# Altium integrated library K7805-2000R3.IntLib: 1 symbol
Pins are listed as number, name and electrical type; pins without a type are passive.

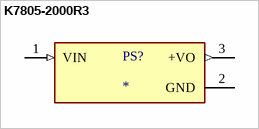
[diagram p0: symbol K7805-2000R3]

## K7805-2000R3
designator PS?
éžçµ¶ç¸åž‹ PoL ãƒ¢ã‚¸ãƒ¥ãƒ¼ãƒ« DC DC ã‚³ãƒ³ãƒãƒ¼ã‚¿ 1 å‡ºåŠ› 5V 2A 8V - 36V å…¥åŠ›; MF: Mornsun America, LLC; MP: K7805-2000R3; SnapEDA_Link: https://www.snapeda.com/parts/K7805-2000R3/MORNSUN/view-part/5366399/?ref=snap; Value: *; Package: SIP-3-3 MORNSUN; Digi-Key_Part_Number: 2725-K7805-2000R3-ND; Check_prices: https://www.snapeda.com/parts/K7805-2000R3/MORNSUN/view-part/5366399/?ref=eda
footprint CONV_K7805-2000R3
pins: 1 VIN (in), 2 GND (power), 3 +VO (out)